# Altium footprint library SMD ECAP.PcbLib: 7 footprints
Each footprint in its own frame and in the unit in brackets; x right, y up, seen from the top. Pads: shape width x height; smd on the part's side, far side on the other; paste and mask are expansions set on the pad; w line width, h text height; cw(c..) or ccw(c..) is an arc to the next point about the centre after c.
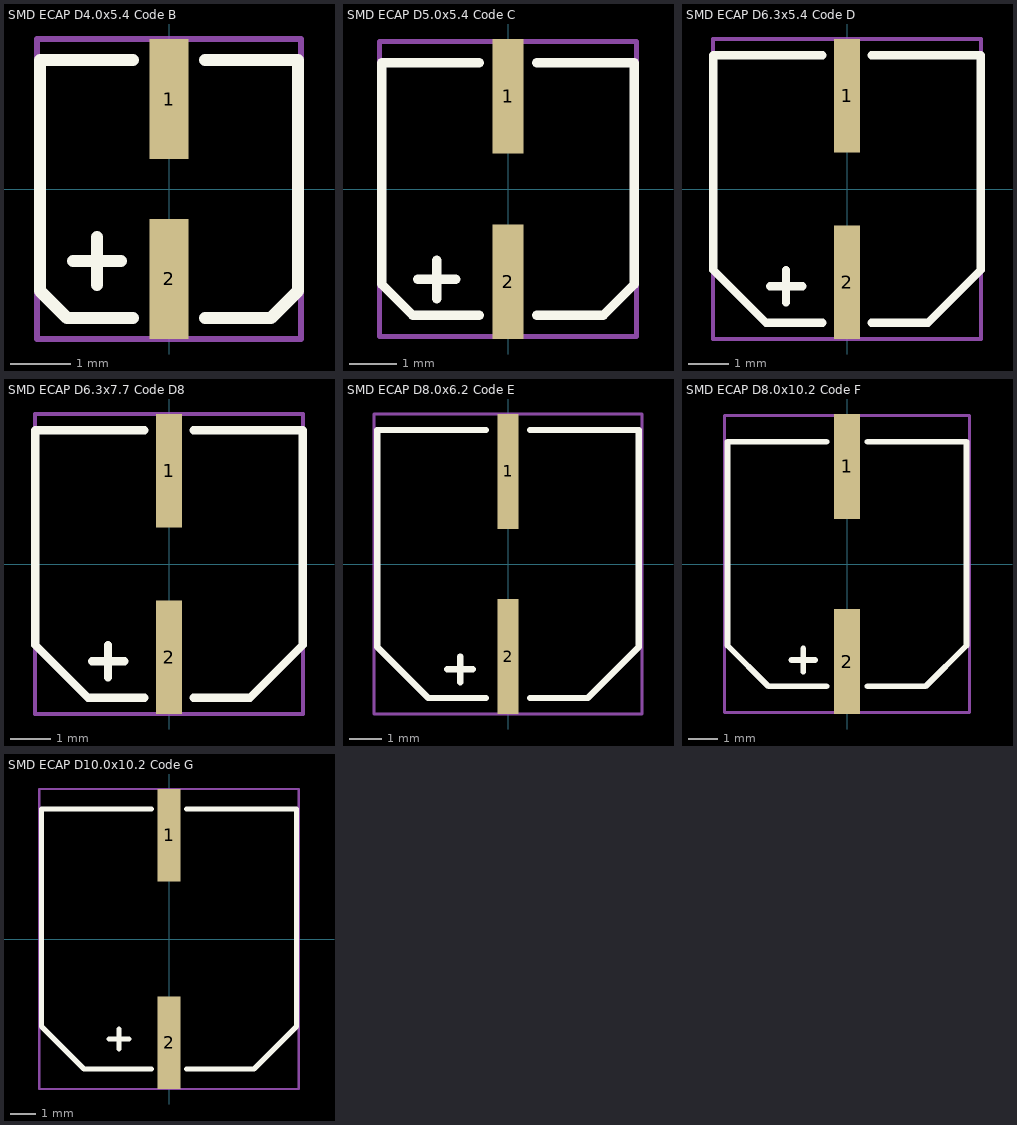
[diagram p0: the footprints below, top view; thin cyan lines are the x and y axes]

## SMD ECAP D4.0x5.4 Code B [mm]
pads (2):
  rect 0.65x2 smd: 1(0,1.5) 2(0,-1.5)
Top Overlay:
  lines w0.2: -1.6,-1.2 -0.8,-1.2 ; -1.2,-1.6 -1.2,-0.8 ; -0.6,-2.15 -1.7,-2.15 -2.15,-1.7 -2.15,2.15 -0.6,2.15 ; 0.6,-2.15 1.7,-2.15 2.15,-1.7 2.15,2.15 0.6,2.15
Border:
  lines w0.1: -2.2,-2.5 -2.2,2.5 2.2,2.5 2.2,-2.5 -2.2,-2.5
3D body "User Library-SMD Polymer Aluminum Electrolytic Capacitors A5 15uF 10V.STEP": height 5.4, standoff -0.05, extent -2.15,-2.5 2.15,2.5

## SMD ECAP D5.0x5.4 Code C [mm]
pads (2):
  rect 0.65x2.4 smd: 1(0,1.95) 2(0,-1.95)
Top Overlay:
  lines w0.2: -1.9,-1.9 -1.1,-1.9 ; -1.5,-2.3 -1.5,-1.5 ; -0.6,-2.65 -2,-2.65 -2.65,-2 -2.65,2.65 -0.6,2.65 ; 0.6,-2.65 2,-2.65 2.65,-2 2.65,2.65 0.6,2.65
Border:
  lines w0.1: -2.7,-3.1 2.7,-3.1 2.7,3.1 -2.7,3.1 -2.7,-3.1
3D body "User Library-SMD Polymer Aluminum Electrolytic Capacitors B6 47uF 6,3V.STEP": height 5.9, standoff -0.05, extent -2.65,-3 2.65,3

## SMD ECAP D6.3x5.4 Code D [mm]
pads (2):
  rect 0.65x2.8 smd: 1(0,2.3) 2(0,-2.3)
Top Overlay:
  lines w0.2: -1.9,-2.4 -1.1,-2.4 ; -1.5,-2.8 -1.5,-2 ; -0.6,-3.3 -2,-3.3 -3.3,-2 -3.3,3.3 -0.6,3.3 ; 0.6,-3.3 2,-3.3 3.3,-2 3.3,3.3 0.6,3.3
Border:
  lines w0.1: -3.3,-3.7 3.3,-3.7 3.3,3.7 -3.3,3.7 -3.3,-3.7
3D body "User Library-Nichicon_CW6_3x7.STEP": height 6.91, standoff 0, extent -3.3,-3.5 3.3,3.5

## SMD ECAP D6.3x7.7 Code D8 [mm]
pads (2):
  rect 0.65x2.8 smd: 1(0,2.3) 2(0,-2.3)
Top Overlay:
  lines w0.2: -1.9,-2.4 -1.1,-2.4 ; -1.5,-2.8 -1.5,-2 ; -0.6,-3.3 -2,-3.3 -3.3,-2 -3.3,3.3 -0.6,3.3 ; 0.6,-3.3 2,-3.3 3.3,-2 3.3,3.3 0.6,3.3
Border:
  lines w0.1: -3.3,-3.7 3.3,-3.7 3.3,3.7 -3.3,3.7 -3.3,-3.7
3D body "User Library-SMD Polymer Aluminum Electrolytic Capacitors C6 120uF 6,3V.STEP": height 5.9, standoff -0.05, extent -3.3,-3.65 3.3,3.65

## SMD ECAP D8.0x6.2 Code E [mm]
pads (2):
  rect 0.65x3.6 smd: 1(0,2.9) 2(0,-2.9)
Top Overlay:
  lines w0.2: -1.9,-3.3 -1.1,-3.3 ; -1.5,-3.7 -1.5,-2.9 ; -0.7,-4.2 -2.5,-4.2 -4.1,-2.6 -4.1,4.2 -0.7,4.2 ; 0.7,-4.2 2.5,-4.2 4.1,-2.6 4.1,4.2 0.7,4.2
Border:
  lines w0.1: -4.2,-4.7 4.2,-4.7 4.2,4.7 -4.2,4.7 -4.2,-4.7
3D body "User Library-capacitor-9.STEP": height 6.1, standoff 0, extent -4.151,-4.674 4.151,4.874

## SMD ECAP D8.0x10.2 Code F [mm]
pads (2):
  rect 0.9x3.6 smd: 1(0,3.35) 2(0,-3.35)
Top Overlay:
  lines w0.2: -1.9,-3.3 -1.1,-3.3 ; -1.5,-3.7 -1.5,-2.9 ; -0.7,-4.2 -2.7,-4.2 -4.1,-2.8 -4.1,4.2 -0.7,4.2 ; 0.7,-4.2 2.7,-4.2 4.1,-2.8 4.1,4.2 0.7,4.2
Border:
  lines w0.1: -4.2,-5.1 -4.2,5.1 4.2,5.1 4.2,-5.1 -4.2,-5.1
3D body "User Library-SMD Polymer Aluminum Electrolytic Capacitors E12 680uF 2,5V.STEP": height 11.9, standoff -0.05, extent -4.15,-4.5 4.15,4.5

## SMD ECAP D10.0x10.2 Code G [mm]
pads (2):
  rect 0.9x3.7 smd: 1(0,4.15) 2(0,-4.15)
Top Overlay:
  lines w0.2: -2.4,-4 -1.6,-4 ; -2,-4.4 -2,-3.6 ; -0.7,-5.2 -3.4,-5.2 -5.1,-3.5 -5.1,5.2 -0.7,5.2 ; 0.7,-5.2 3.4,-5.2 5.1,-3.5 5.1,5.2 0.7,5.2
Border:
  lines w0.1: -5.2,-6 -5.2,6 5.2,6 5.2,-6 -5.2,-6
3D body "User Library-cap_10x10x10-1.STEP": height 10.3, standoff -0.2, extent -5.25,-5.901 5.25,5.899